# Altium schematic symbol library MainBLib.SchLib: 49 symbols (part 1 of 2)
Pins are listed as number, name and electrical type; pins without a type are passive.

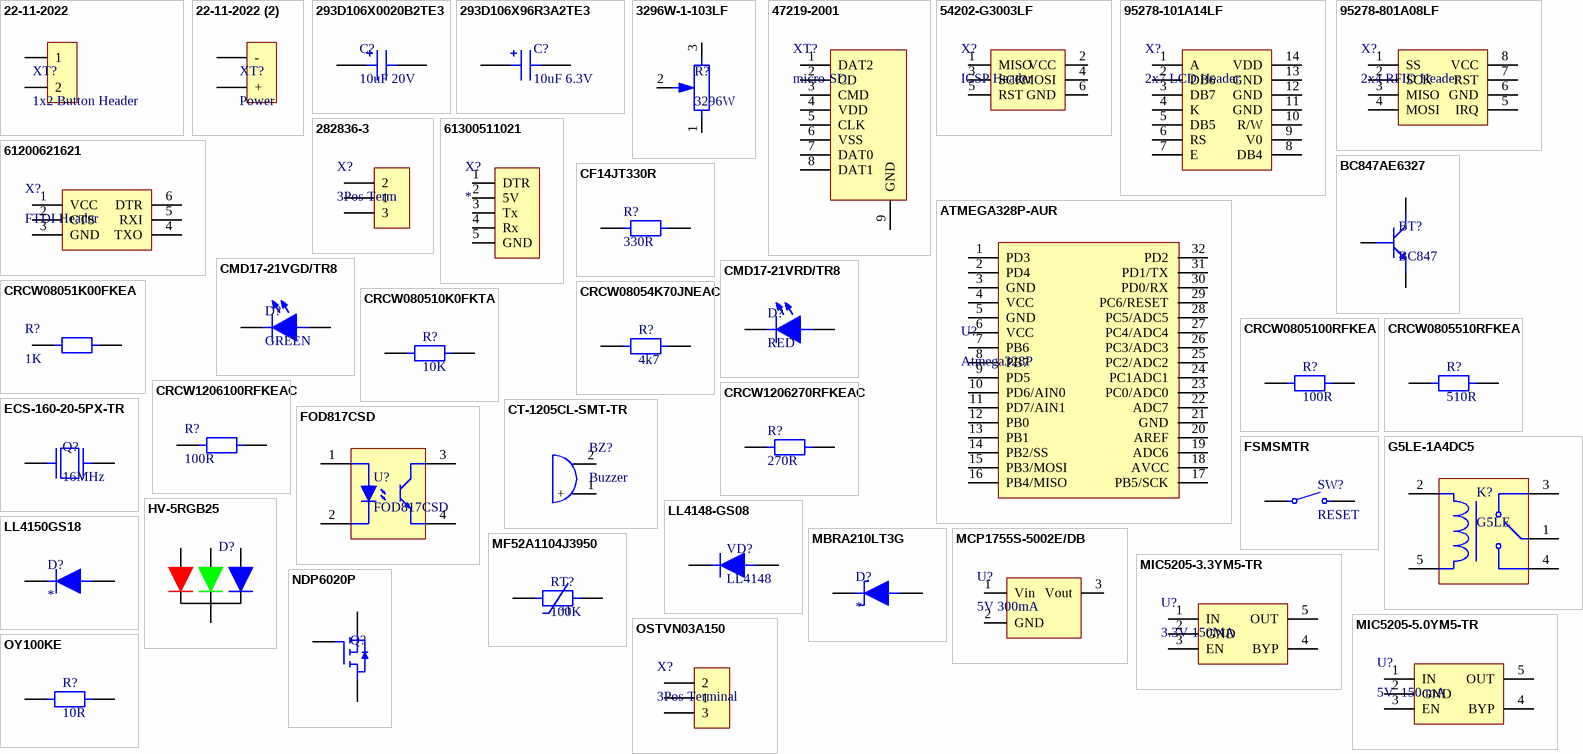
[diagram p0: symbols 22-11-2022 to OY100KE]

## 22-11-2022
designator XT?, comment 1x2 Button Header
HEADER, 2POS, 1ROW, 2.54MM; Manufacturer: Molex; Number of Positions: 2; Gender: Male; Contact Resistance: 10mR; Current Rating: 4A; Voltage Rating: 250V; Max Current Rating: 7A; Insulation Resistance: 50GR; Approvals: UL,CSA; Supplier 1: Digi-Key; Supplier Part Number 1: WM2700-ND; Manufacturer Part Number: 22-11-2022; Stock 1: 6202; Pricing 1: 1=0.4, 10=0.38, 100=0.2658, 500=0.2279, 1000=0.1899, 5000=0.1628, 10000=0.1519 (USD); Mount: Through Hole; Color: White; Housing Color: Black; Housing Material: Nylon; Contact Plating: Gold,Copper,Tin; Contact Material: Brass; Min Operating Temperature: 0°C; Max Operating Temperature: 75°C; Number of Rows: 1; Packaging: Bulk; Termination: Solder; Number of Contacts: 2; Orientation: Straight; Package Quantity: 3000; Number of Circuits: 2; Max Voltage Rating (AC): 250V; Voltage Rating (DC): 250V; Length: 95mm; Height: 9.02mm; Pitch: 2.54mm; Depth: 20.29mm; Radiation Hardening: No; REACH SVHC: Unknown; Lead Free: Lead Free; Flammability Rating: UL94 V-0; ComponentLink1URL: http://www.molex.com/webdocs/datasheets/pdf/en-us/0022112022_PCB_HEADERS.pdf?src-supplier=Avnet+Asia; ComponentLink1Description: http://www.molex.com/webdocs/datasheets/pdf/en-us/0022112022_PCB_HEADERS.pdf?src-supplier=Avnet+Asia; ComponentLink2URL: http://www.molex.com/webdocs/datasheets/pdf/en-us/0022112022_PCB_HEADERS.pdf?src-supplier=Avnet; ComponentLink2Description: http://www.molex.com/webdocs/datasheets/pdf/en-us/0022112022_PCB_HEADERS.pdf?src-supplier=Avnet; ComponentLink3URL: https://www.verical.com/server-webapp/html/getDatasheet?partID=176586&src-supplier=Verical; ComponentLink3Description: https://www.verical.com/server-webapp/html/getDatasheet?partID=176586&src-supplier=Verical; ComponentLink4URL: http://www.mouser.com/ds/2/276/0022112022_PCB_HEADERS-526513.pdf?src-supplier=Mouser; ComponentLink4Description: http://www.mouser.com/ds/2/276/0022112022_PCB_HEADERS-526513.pdf?src-supplier=Mouser; ComponentLink5URL: http://www.jameco.com/Jameco/Products/ProdDS/1965998.pdf?src-supplier=Jameco; ComponentLink5Description: http://www.jameco.com/Jameco/Products/ProdDS/1965998.pdf?src-supplier=Jameco; ComponentLink6URL: http://uk.rs-online.com/webdocs/13c2/0900766b813c2e16.pdf?src-supplier=RSComponents; ComponentLink6Description: http://uk.rs-online.com/webdocs/13c2/0900766b813c2e16.pdf?src-supplier=RSComponents; ComponentLink7URL: http://www.farnell.com/datasheets/2289626.pdf?src-supplier=Element14; ComponentLink7Description: http://www.farnell.com/datasheets/2289626.pdf?src-supplier=Element14; ComponentLink8URL: http://www.farnell.com/datasheets/2672760.pdf?src-supplier=Newark; ComponentLink8Description: http://www.farnell.com/datasheets/2672760.pdf?src-supplier=Newark; Category: Connectors
footprint HEADERx2
pins: 1, 2

## 22-11-2022 (2)
designator XT?, comment Power
HEADER, 2POS, 1ROW, 2.54MM; Manufacturer: Molex; Voltage Rating: 250V; Current Rating: 4A; Insulation Resistance: 50GR; Number of Contacts: 2; Contact Resistance: 10mR; Gender: Male; Max Current Rating: 7A; Approvals: UL,CSA; Supplier 1: Digi-Key; Supplier Part Number 1: WM2700-ND; Manufacturer Part Number: 22-11-2022; Stock 1: 6202; Pricing 1: 1=0.4, 10=0.38, 100=0.2658, 500=0.2279, 1000=0.1899, 5000=0.1628, 10000=0.1519 (USD); Mount: Through Hole; Contact Plating: Gold,Copper,Tin; Contact Material: Brass; Color: White; Housing Color: Black; Housing Material: Nylon; Min Operating Temperature: 0°C; Max Operating Temperature: 75°C; Termination: Solder; Packaging: Bulk; Package Quantity: 3000; Number of Rows: 1; Number of Positions: 2; Orientation: Straight; Number of Circuits: 2; Max Voltage Rating (AC): 250V; Voltage Rating (DC): 250V; Length: 95mm; Height: 9.02mm; Pitch: 2.54mm; Depth: 20.29mm; Radiation Hardening: No; Lead Free: Lead Free; REACH SVHC: Unknown; Flammability Rating: UL94 V-0; ComponentLink1URL: http://www.molex.com/webdocs/datasheets/pdf/en-us/0022112022_PCB_HEADERS.pdf?src-supplier=Avnet+Asia; ComponentLink1Description: http://www.molex.com/webdocs/datasheets/pdf/en-us/0022112022_PCB_HEADERS.pdf?src-supplier=Avnet+Asia; ComponentLink2URL: http://www.molex.com/webdocs/datasheets/pdf/en-us/0022112022_PCB_HEADERS.pdf?src-supplier=Avnet; ComponentLink2Description: http://www.molex.com/webdocs/datasheets/pdf/en-us/0022112022_PCB_HEADERS.pdf?src-supplier=Avnet; ComponentLink3URL: https://www.verical.com/server-webapp/html/getDatasheet?partID=176586&src-supplier=Verical; ComponentLink3Description: https://www.verical.com/server-webapp/html/getDatasheet?partID=176586&src-supplier=Verical; ComponentLink4URL: http://www.mouser.com/ds/2/276/0022112022_PCB_HEADERS-526513.pdf?src-supplier=Mouser; ComponentLink4Description: http://www.mouser.com/ds/2/276/0022112022_PCB_HEADERS-526513.pdf?src-supplier=Mouser; ComponentLink5URL: http://www.jameco.com/Jameco/Products/ProdDS/1965998.pdf?src-supplier=Jameco; ComponentLink5Description: http://www.jameco.com/Jameco/Products/ProdDS/1965998.pdf?src-supplier=Jameco; ComponentLink6URL: http://uk.rs-online.com/webdocs/13c2/0900766b813c2e16.pdf?src-supplier=RSComponents; ComponentLink6Description: http://uk.rs-online.com/webdocs/13c2/0900766b813c2e16.pdf?src-supplier=RSComponents; ComponentLink7URL: http://www.farnell.com/datasheets/2289626.pdf?src-supplier=Element14; ComponentLink7Description: http://www.farnell.com/datasheets/2289626.pdf?src-supplier=Element14; ComponentLink8URL: http://www.farnell.com/datasheets/2672760.pdf?src-supplier=Newark; ComponentLink8Description: http://www.farnell.com/datasheets/2672760.pdf?src-supplier=Newark; Category: Connectors
footprint HEADERx2
pins: 1 +, 2 -

## 293D106X0020B2TE3
designator C?, comment 10uF 20V
Cap Tant 10uF 20V B CASE 20% (3.5 X 2.8 X 1.9mm) SMD 3528-21 2.1 Ohm 125C T/R; Manufacturer: Vishay Sprague; Manufacturer Part Number: 293D106X0020B2TE3; Dielectric Material: Tantalum; ESR (Equivalent Series Resistance): 2.1R; Ripple Current: 200mA; Leakage Current: 2uA; Polarity: Polar; Dissipation Factor: 6%; Voltage Rating (DC): 2V; Supplier 1: Digi-Key; Supplier Part Number 1: 718-1926-1-ND; Stock 1: 9664; Pricing 1: 1=0.48, 10=0.336, 100=0.2018, 500=0.1514, 1000=0.1278 (USD); Mount: Surface Mount; Case/Package: 1411; Number of Pins: 2; Weight: 0.002293oz; Case Code (Metric): 3528; Case Code (Imperial): 1411; Min Operating Temperature: -55°C; Max Operating Temperature: 125°C; Package Quantity: 2000; Packaging: Tape and Reel; Capacitance: 10uF; Tolerance: 20%; Voltage Rating: 20V; Termination: SMD/SMT; Voltage: 20V; Features: General Purpose; Length: 3.5mm; Height: 2.1mm; Width: 0.11inch; Height - Seated (Max): 0.083inch; Depth: 2.8mm; Radiation Hardening: No; REACH SVHC: Unknown; Lead Free: Lead Free; ComponentLink1URL: http://www.vishay.com/docs/40002/293d.pdf?src-supplier=Avnet; ComponentLink1Description: http://www.vishay.com/docs/40002/293d.pdf?src-supplier=Avnet; ComponentLink2URL: http://www.vishay.com/docs/40002/293d.pdf?src-supplier=Future+Electronics; ComponentLink2Description: http://www.vishay.com/docs/40002/293d.pdf?src-supplier=Future+Electronics; ComponentLink3URL: http://www.mouser.com/ds/2/427/293d-239871.pdf?src-supplier=Mouser; ComponentLink3Description: http://www.mouser.com/ds/2/427/293d-239871.pdf?src-supplier=Mouser; ComponentLink4URL: http://www.vishay.com/docs/40002/293d.pdf?src-supplier=Avnet+Europe; ComponentLink4Description: http://www.vishay.com/docs/40002/293d.pdf?src-supplier=Avnet+Europe; ComponentLink5URL: http://www.vishay.com/docs/40002/293d.pdf?src-supplier=Digi-Key; ComponentLink5Description: http://www.vishay.com/docs/40002/293d.pdf?src-supplier=Digi-Key; Category: Capasitors
footprint Tant Capacitor B Package
pins: 1, 2

## 293D106X96R3A2TE3
designator C?, comment 10uF 6.3V
CAP TANT 10UF 6.3V 10% 1206; Manufacturer: Vishay Sprague; Manufacturer Part Number: 293D106X96R3A2TE3; Dielectric Material: Tantalum; ESR (Equivalent Series Resistance): 3.4R; Ripple Current: 150mA; Leakage Current: 600nA; Polarity: Polar; Dissipation Factor: 6%; Q Factor: 6; Supplier 1: Digi-Key; Supplier Part Number 1: 718-1126-1-ND; Stock 1: 57716; Pricing 1: 1=0.3, 10=0.212, 100=0.127, 500=0.0952, 1000=0.0804 (USD); Mount: Surface Mount,PCB; Case/Package: 1206; Case Code (Metric): 3216; Case Code (Imperial): 1206; Min Operating Temperature: -55°C; Max Operating Temperature: 125°C; Capacitance: 10uF; Tolerance: 10%; Voltage Rating: 6.3V; Packaging: Tape and Reel; Voltage Rating (DC): 6.3V; Package Quantity: 1; Termination: SMD/SMT; Voltage: 6.3V; Features: General Purpose; Length: 3.2mm; Height: 1.6mm; Width: 1.6mm; Height - Seated (Max): 0.071inch; Depth: 1.6mm; Radiation Hardening: No; REACH SVHC: Unknown; Lead Free: Lead Free; ComponentLink1URL: http://www.vishay.com/docs/40002/293d.pdf?src-supplier=Avnet; ComponentLink1Description: http://www.vishay.com/docs/40002/293d.pdf?src-supplier=Avnet; ComponentLink2URL: http://www.farnell.com/datasheets/2045658.pdf?src-supplier=Element14; ComponentLink2Description: http://www.farnell.com/datasheets/2045658.pdf?src-supplier=Element14; ComponentLink3URL: http://documents.rs-components.com/techlib://itc_doclist_GB.htm?stockno=6843913&src-supplier=RSComponents; ComponentLink3Description: http://documents.rs-components.com/techlib://itc_doclist_GB.htm?stockno=6843913&src-supplier=RSComponents; ComponentLink4URL: https://www.alliedelec.com/m/d/7dc9f301682605e5c5665c787edb7bb9.pdf?src-supplier=Allied+Electronics; ComponentLink4Description: https://www.alliedelec.com/m/d/7dc9f301682605e5c5665c787edb7bb9.pdf?src-supplier=Allied+Electronics; ComponentLink5URL: http://www.vishay.com/docs/40002/293d.pdf?src-supplier=Digi-Key; ComponentLink5Description: http://www.vishay.com/docs/40002/293d.pdf?src-supplier=Digi-Key; ComponentLink6URL: http://www.mouser.com/ds/2/427/293d-239871.pdf?src-supplier=Mouser; ComponentLink6Description: http://www.mouser.com/ds/2/427/293d-239871.pdf?src-supplier=Mouser; ComponentLink7URL: http://www.vishay.com/docs/40002/293d.pdf?src-supplier=Avnet+Europe; ComponentLink7Description: http://www.vishay.com/docs/40002/293d.pdf?src-supplier=Avnet+Europe; ComponentLink8URL: http://www.farnell.com/datasheets/438417.pdf?src-supplier=Element14; ComponentLink8Description: http://www.farnell.com/datasheets/438417.pdf?src-supplier=Element14; Category: Capacitors
footprint CAP MP3216X16M (Molded Capacitor, 2-Leads, Body 3.20x1.60mm, IPC Low Density)
pins: 1, 2

## 3296W-1-103LF
designator R?, comment 3296W
POT,TRIMMER, 10K, 25TURN, 10%; Manufacturer: Bourns; Manufacturer Part Number: 3296W-1-103LF; Resistance: 10kR; Power Rating: 500mW; Number of Turns: 25; Temperature Coefficient: 100ppm/°C; Insulation Resistance: 1GR; Supplier 1: Digi-Key; Supplier Part Number 1: 3296W-103LF-ND; Stock 1: 6831; Pricing 1: 1=2.41, 10=2.117, 25=1.898, 50=1.825, 100=1.752, 250=1.679, 500=1.387, 1000=1.314, 5000=1.095 (USD); Mount: PCB,Through Hole; Weight: 0.03oz; Color: Blue; Contact Plating: Tin,Matte; Min Operating Temperature: -55°C; Max Operating Temperature: 125°C; Packaging: Rail/Tube; Tolerance: 10%; Package Quantity: 50; Termination: Pin; Military Standard: Not; Composition: Cermet; Taper: Linear; Max Power Dissipation: 500mW; Length: 9.53mm; Height: 0.395inch; Depth: 4.83mm; Width: 9.53mm; Radiation Hardening: No; REACH SVHC: No SVHC; Lead Free: Lead Free; ComponentLink1URL: http://www.jameco.com/Jameco/Products/ProdDS/853572.pdf?src-supplier=Jameco; ComponentLink1Description: http://www.jameco.com/Jameco/Products/ProdDS/853572.pdf?src-supplier=Jameco; ComponentLink2URL: http://uk.rs-online.com/webdocs/069c/0900766b8069ccf4.pdf?src-supplier=RSComponents; ComponentLink2Description: http://uk.rs-online.com/webdocs/069c/0900766b8069ccf4.pdf?src-supplier=RSComponents; ComponentLink3URL: http://www.farnell.com/datasheets/1815117.pdf?src-supplier=Element14; ComponentLink3Description: http://www.farnell.com/datasheets/1815117.pdf?src-supplier=Element14; ComponentLink4URL: https://www.alliedelec.com/m/d/2c9544ba67faa2c7f2ae4d15d246abe3.pdf?src-supplier=Allied+Electronics; ComponentLink4Description: https://www.alliedelec.com/m/d/2c9544ba67faa2c7f2ae4d15d246abe3.pdf?src-supplier=Allied+Electronics; ComponentLink5URL: http://www.bourns.com/data/global/pdfs/3296.pdf?src-supplier=Avnet; ComponentLink5Description: http://www.bourns.com/data/global/pdfs/3296.pdf?src-supplier=Avnet; ComponentLink6URL: https://www.bourns.com/docs/Product-Datasheets/3296.pdf?src-supplier=Digi-Key; ComponentLink6Description: https://www.bourns.com/docs/Product-Datasheets/3296.pdf?src-supplier=Digi-Key; ComponentLink7URL: http://www.produktinfo.conrad.com/datenblaetter/425000-449999/447277-da-01-en-TRIMMER_THT3296W_1_103LF_10K_0_5W.pdf?src-supplier=Conrad; ComponentLink7Description: http://www.produktinfo.conrad.com/datenblaetter/425000-449999/447277-da-01-en-TRIMMER_THT3296W_1_103LF_10K_0_5W.pdf?src-supplier=Conrad; ComponentLink8URL: http://datasheet.iiic.cc/bourns/3296W-1-103LF.pdf?src-supplier=IIIC; ComponentLink8Description: http://datasheet.iiic.cc/bourns/3296W-1-103LF.pdf?src-supplier=IIIC; Category: Potentiometers
pins: 1, 2, 3

## 47219-2001
designator XT?, comment micro-SD
Conn Micro SD Card SKT 8 POS 1.1mm Solder RA SMD 0.5A/Contact Embossed T/R; Manufacturer: Molex; Manufacturer Part Number: 47219-2001; Number of Contacts: 8; Current Rating: 500mA; Voltage Rating (DC): 100V; Gender: Female; Shielding: Shielded; Pitch: 1.09mm; Supplier 1: Digi-Key; Supplier Part Number 1: WM6698CT-ND; Stock 1: 25434; Pricing 1: 1=1.16, 10=1.022, 25=0.9616, 50=0.9214, 100=0.8814, 250=0.8012 (USD); Mount: Surface Mount; Contact Material: Copper Alloy; Contact Plating: Gold; Housing Material: Thermoplastic; Color: Black; Material: Thermoplastic; Min Operating Temperature: -20°C; Max Operating Temperature: 85°C; Packaging: Tape and Reel; Package Quantity: 2400; Termination: SMD/SMT; Orientation: Right Angle; Number of Circuits: 8; Length: 13.6mm; Depth: 1.9mm; Width: 14.5mm; Radiation Hardening: No; REACH SVHC: No SVHC; Lead Free: Lead Free; Halogen Free: Low Halogen; ELV: Compliant; ComponentLink1URL: http://www.onlinecomponents.com/productFiles/mf-MOL/260460472192001_memory_card_socket.pdf?src-supplier=Onlinecomponents.com; ComponentLink1Description: http://www.onlinecomponents.com/productFiles/mf-MOL/260460472192001_memory_card_socket.pdf?src-supplier=Onlinecomponents.com; ComponentLink2URL: http://www.molex.com/webdocs/datasheets/pdf/en-us/0472192001_MEMORY_CARD_SOCKET.pdf?src-supplier=Avnet+Europe; ComponentLink2Description: http://www.molex.com/webdocs/datasheets/pdf/en-us/0472192001_MEMORY_CARD_SOCKET.pdf?src-supplier=Avnet+Europe; Category: Connectors
footprint microSD
pins: 1 DAT2, 2 CD, 3 CMD, 4 VDD, 5 CLK, 6 VSS, 7 DAT0, 8 DAT1, 9 GND

## 54202-G3003LF
designator X?, comment ICSP Header
HEADER, 6POS, 2ROWS 2.54mm Solder ST SMD Bag; Manufacturer: Amphenol FCI; Manufacturer Part Number: 54202-G3003LF; Current Rating: 3A; Voltage Rating: 1.5kV; Number of Positions: 6; Insulation Resistance: 5GR; Gender: Male; Connector Type: Male Pin; Row Spacing: 0.1inch; Supplier 1: Digi-Key; Supplier Part Number 1: 609-6366-ND; Stock 1: 2311; Pricing 1: 1=0.38, 10=0.356, 100=0.2489, 500=0.2134, 1000=0.1778, 5000=0.1524, 10000=0.1422 (USD); Mount: Surface Mount; Color: Black; Contact Material: Bronze; Contact Plating: Gold,GXT; Housing Color: Black; Housing Material: Thermoplastic; Min Operating Temperature: -65°C; Max Operating Temperature: 125°C; Package Quantity: 1000; Packaging: Bulk; Number of Rows: 2; Contact Gender: Male; Termination: Solder; Number of Contacts: 6; Max Voltage Rating (AC): 1.5kV; Orientation: Straight; Length: 7.62mm; Pitch: 2.54mm; Contact Mating Length: 0.318inch; Depth: 4.83mm; Radiation Hardening: No; ComponentLink1URL: http://portal.fciconnect.com/Comergent///fci/drawing/54202.pdf?src-supplier=Avnet; ComponentLink1Description: http://portal.fciconnect.com/Comergent///fci/drawing/54202.pdf?src-supplier=Avnet; Category: Connectors
footprint HDRx6
pins: 1 MISO, 2 VCC, 3 SCK, 4 MOSI, 5 RST, 6 GND

## 95278-101A14LF
designator X?, comment 2x7 LCD Header
HEADER, 14POS, 2ROWS 2.54mm .100 DR SMT; Manufacturer: Amphenol FCI; Manufacturer Part Number: 95278-101A14LF; Current Rating: 3A; Voltage Rating: 1.5kV; Number of Positions: 14; Insulation Resistance: 5GR; Gender: Male; Connector Type: Male Pin; Row Spacing: 0.1inch; Supplier 1: Digi-Key; Supplier Part Number 1: 609-3485-1-ND; Stock 1: 7010; Pricing 1: 1=1.38, 10=1.252, 100=1.0728 (USD); Mount: Surface Mount; Color: Black; Contact Plating: Gold,GXT; Contact Material: Bronze; Housing Color: Black; Housing Material: Thermoplastic; Min Operating Temperature: -65°C; Max Operating Temperature: 125°C; Package Quantity: 300; Number of Rows: 2; Packaging: Tape and Reel; Contact Gender: Male; Termination: SMD/SMT; Number of Contacts: 14; Max Voltage Rating (AC): 1.5kV; Orientation: Straight; Length: 17.78mm; Pitch: 2.54mm; Contact Mating Length: 0.232inch; Depth: 4.83mm; Radiation Hardening: No; REACH SVHC: No SVHC; Lead Free: Lead Free; ComponentLink1URL: https://cdn.amphenol-icc.com/media/wysiwyg/files/drawing/95278.pdf?src-supplier=Digi-Key; ComponentLink1Description: https://cdn.amphenol-icc.com/media/wysiwyg/files/drawing/95278.pdf?src-supplier=Digi-Key; ComponentLink2URL: http://portal.fciconnect.com/Comergent//fci/drawing/95278.pdf?src-supplier=Digi-Key; ComponentLink2Description: http://portal.fciconnect.com/Comergent//fci/drawing/95278.pdf?src-supplier=Digi-Key; ComponentLink3URL: http://www.farnell.com/datasheets/1918632.pdf?src-supplier=Element14; ComponentLink3Description: http://www.farnell.com/datasheets/1918632.pdf?src-supplier=Element14; ComponentLink4URL: http://portal.fciconnect.com/Comergent/fci/drawing/95278.pdf?src-supplier=Element14; ComponentLink4Description: http://portal.fciconnect.com/Comergent/fci/drawing/95278.pdf?src-supplier=Element14; ComponentLink5URL: https://www.alliedelec.com/m/d/461e4c163161d08bf5cdf53af6a09262.pdf?src-supplier=Allied+Electronics; ComponentLink5Description: https://www.alliedelec.com/m/d/461e4c163161d08bf5cdf53af6a09262.pdf?src-supplier=Allied+Electronics; Category: Connectors
footprint HEADERx14
pins: 1 A, 2 DB6, 3 DB7, 4 K, 5 DB5, 6 RS, 7 E, 8 DB4, 9 V0, 10 R/W, 11 GND, 12 GND, 13 GND, 14 VDD

## 95278-801A08LF
designator X?, comment 2x4 RFID Header
HEADER, 8POS, 2ROWS 2.54mm SMT; H: 9.7mm; Manufacturer: Amphenol FCI; Manufacturer Part Number: 95278-801A08LF; Current Rating: 3A; Voltage Rating: 1.5kV; Number of Positions: 8; Insulation Resistance: 5GR; Gender: Male; Connector Type: Male Pin; Row Spacing: 0.1inch; Supplier 1: Digi-Key; Supplier Part Number 1: 609-5162-1-ND; Stock 1: 2073; Pricing 1: 1=0.82, 10=0.724, 100=0.6248 (USD); Mount: Surface Mount; Contact Plating: Gold,GXT; Contact Material: Bronze; Color: Black; Housing Color: Black; Housing Material: Thermoplastic; Min Operating Temperature: -65°C; Max Operating Temperature: 125°C; Number of Rows: 2; Packaging: Tape and Reel; Contact Gender: Male; Package Quantity: 300; Termination: Solder; Max Voltage Rating (AC): 1.5kV; Number of Contacts: 8; Orientation: Straight; Length: 10.16mm; Pitch: 2.54mm; Contact Mating Length: 0.232inch; Depth: 4.83mm; Radiation Hardening: No; Flammability Rating: UL94 V-0; ComponentLink1URL: http://portal.fciconnect.com/Comergent/fci/drawing/95278.pdf?src-supplier=Avnet+Europe; ComponentLink1Description: http://portal.fciconnect.com/Comergent/fci/drawing/95278.pdf?src-supplier=Avnet+Europe; ComponentLink2URL: http://portal.fciconnect.com/Comergent//fci/drawing/95278.pdf?src-supplier=Digi-Key; ComponentLink2Description: http://portal.fciconnect.com/Comergent//fci/drawing/95278.pdf?src-supplier=Digi-Key; Category: Connectors
footprint HEADERx8
pins: 1 SS, 2 SCK, 3 MISO, 4 MOSI, 5 IRQ, 6 GND, 7 RST, 8 VCC

## 282836-3
designator X?, comment 3Pos Term
TERMINAL 3POS 5mm SIDE ENTRY PCB; Manufacturer: TE Connectivity; Manufacturer Part Number: 282836-3; Plating: Brass; Current Rating: 13.5A; Voltage Rating (AC): 250V; Number of Poles: 3; Max Voltage Rating (AC): 300V; Number of Levels: 1; Connector Type: Receptacle; Closed End: No (Without); Interlock: Yes (With); Wire/Cable Gauge: 16AWG; Wire Gauge (Max): 30AWG; Thread Size: M3; Tail Length: 3.5mm; Approvals: UL; Supplier 1: Digi-Key; Supplier Part Number 1: A98077-ND; Stock 1: 27350; Pricing 1: 1=1.24, 10=0.874, 25=0.8148, 50=0.7398, 100=0.7364, 250=0.6219, 500=0.5891, 1000=0.5237, 5000=0.491 (USD); Mount: Through Hole; Contact Plating: Tin; Contact Material: Brass; Color: Green; Housing Color: Green; Housing Material: Polyamide; Insulation Material: Nylon; Number of Rows: 1; Package Quantity: 200; Packaging: Bulk; Voltage Rating: 300V; Max Current Rating: 13.5A; Number of Positions Per Level: 3; Current: 13.5A; Voltage: 300V; Termination: Screw; Number of Positions: 3; Number of Contacts: 3; RMS Current (Irms): 13.5A; Working Voltage: 250V; Number of Circuits: 3; Max Supply Voltage (AC): 300V; Orientation: Straight; Screw Flange: No (Without); Screwless Terminal Block: No (Without); Side Stackable: Yes (With); Length: 15mm; Wire Gauge (Min): 16AWG; Width: 10mm; Pitch: 5mm; Depth: 8.2mm; Radiation Hardening: No; REACH SVHC: Unknown; Lead Free: Lead Free; ELV: Compliant; Flammability Rating: UL94 V-0; ComponentLink1URL: https://www.verical.com/server-webapp/html/getDatasheet?partID=155856&src-supplier=Verical; ComponentLink1Description: https://www.verical.com/server-webapp/html/getDatasheet?partID=155856&src-supplier=Verical; ComponentLink2URL: https://www.te.com/commerce/DocumentDelivery/DDEController?Action=srchrtrv&DocNm=1308389_EUROSTYLE_TERMINAL_BLOCKS&DocType=CS&DocLang=English&src-supplier=Digi-Key; ComponentLink2Description: https://www.te.com/commerce/DocumentDelivery/DDEController?Action=srchrtrv&DocNm=1308389_EUROSTYLE_TERMINAL_BLOCKS&DocType=CS&DocLang=English&src-supplier=Digi-Key; ComponentLink3URL: http://www.onlinecomponents.com/productFiles/mf-AMP/eng_cs_1308389_eurostyle_terminal_blocks_0607.pdf?src-supplier=Onlinecomponents.com; ComponentLink3Description: http://www.onlinecomponents.com/productFiles/mf-AMP/eng_cs_1308389_eurostyle_terminal_blocks_0607.pdf?src-supplier=Onlinecomponents.com; ComponentLink4URL: http://www.te.com/commerce/DocumentDelivery/DDEController?Action=showdoc&DocId=Catalog+Section%7F1308389_EUROSTYLE_TERMINAL_BLOCKS%7F0607%7Fpdf%7FEnglish%7FENG_CS_1308389_EUROSTYLE_TERMINAL_BLOCKS_0607.pdf%7F282836-3&src-supplier=Future+Electronics; ComponentLink4Description: http://www.te.com/commerce/DocumentDelivery/DDEController?Action=showdoc&DocId=Catalog+Section%7F1308389_EUROSTYLE_TERMINAL_BLOCKS%7F0607%7Fpdf%7FEnglish%7FENG_CS_1308389_EUROSTYLE_TERMINAL_BLOCKS_0607.pdf%7F282836-3&src-supplier=Future+Electronics; ComponentLink5URL: http://www.jameco.com/Jameco/Products/ProdDS/750661.pdf?src-supplier=Jameco; ComponentLink5Description: http://www.jameco.com/Jameco/Products/ProdDS/750661.pdf?src-supplier=Jameco; ComponentLink6URL: https://www.alliedelec.com/m/d/c15f958d4f0d312ebef2d0a238f3cd9c.pdf?src-supplier=Allied+Electronics; ComponentLink6Description: https://www.alliedelec.com/m/d/c15f958d4f0d312ebef2d0a238f3cd9c.pdf?src-supplier=Allied+Electronics; ComponentLink7URL: http://www.te.com/commerce/DocumentDelivery/DDEController?Action=srchrtrv&DocNm=1308389_EUROSTYLE_TERMINAL_BLOCKS&DocType=Catalog+Section&DocLang=English&src-supplier=Avnet+Europe; ComponentLink7Description: http://www.te.com/commerce/DocumentDelivery/DDEController?Action=srchrtrv&DocNm=1308389_EUROSTYLE_TERMINAL_BLOCKS&DocType=Catalog+Section&DocLang=English&src-supplier=Avnet+Europe; ComponentLink8URL: http://uk.rs-online.com/webdocs/002d/0900766b8002dc8a.pdf?src-supplier=RSComponents; ComponentLink8Description: http://uk.rs-online.com/webdocs/002d/0900766b8002dc8a.pdf?src-supplier=RSComponents; ComponentLink9URL: http://www.te.com/commerce/DocumentDelivery/DDEController?Action=srchrtrv&DocNm=1308389_EUROSTYLE_TERMINAL_BLOCKS&DocType=Catalog+Section&DocLang=English&src-supplier=Avnet; ComponentLink9Description: http://www.te.com/commerce/DocumentDelivery/DDEController?Action=srchrtrv&DocNm=1308389_EUROSTYLE_TERMINAL_BLOCKS&DocType=Catalog+Section&DocLang=English&src-supplier=Avnet; Category: Connctors
footprint 3 Pos Terminal 5mm
pins: 1, 2, 3

## 61200621621
designator X?, comment FTDI Header
Header, 6 Contacts, 2.54 mm, WR-BHD Series, WURTH ELEKTRONIK Wire-To-Board Connector, Through Hole; Manufacturer: Wurth Electronics; Manufacturer Part Number: 61200621621; Number of Positions: 6; Gender: Male; Connector Type: Male Pin; Pitch: 0.1inch; Supplier 1: Digi-Key; Supplier Part Number 1: 732-5394-ND; Stock 1: 1821; Pricing 1: 1=0.45, 10=0.437, 50=0.403, 100=0.361, 360=0.3544 (USD); Mount: Through Hole; Contact Plating: Gold; Contact Material: Copper; Color: Black; Packaging: Tray; Termination: Solder; Number of Rows: 2; Number of Contacts: 6; Row Spacing: 0.1inch; REACH SVHC: Unknown; ComponentLink1URL: http://www.farnell.com/datasheets/76595.pdf?src-supplier=Element14; ComponentLink1Description: http://www.farnell.com/datasheets/76595.pdf?src-supplier=Element14; Category: Connectors
footprint FTDI HDRx6
pins: 1 VCC, 2 CTS, 3 GND, 4 TXO, 5 RXI, 6 DTR

## 61300511021
designator X?
HEADER 5Pos Right Angle, WURTH ELEKTRONIK 61300511021 Board-To-Board Connector, WR-PHD Series, Through Hole, Header, 5 Contacts, 2.54 mm; Manufacturer: Wurth Electronics; Number of Positions: 5; Gender: Male; Connector Type: Male Pin; Pitch: 0.1inch; Supplier 1: Digi-Key; Supplier Part Number 1: 732-5338-ND; Manufacturer Part Number: 61300511021; Stock 1: 5115; Pricing 1: 1=0.41, 10=0.348, 25=0.29, 50=0.242, 100=0.22, 1000=0.2 (USD); Mount: Through Hole; Contact Plating: Gold; Contact Material: Copper; Color: Black; Number of Rows: 1; Packaging: Bulk; Termination: Solder; Number of Contacts: 5; Contact Mating Length: 0.236inch; REACH SVHC: Unknown; ComponentLink1URL: http://www.farnell.com/datasheets/1442172.pdf?src-supplier=Element14; ComponentLink1Description: http://www.farnell.com/datasheets/1442172.pdf?src-supplier=Element14; ComponentLink2URL: http://www.farnell.com/datasheets/1442172.pdf?src-supplier=Farnell; ComponentLink2Description: http://www.farnell.com/datasheets/1442172.pdf?src-supplier=Farnell; ComponentLink3URL: https://katalog.we-online.de/em/datasheet/6130xx11021.pdf?src-supplier=Digi-Key; ComponentLink3Description: https://katalog.we-online.de/em/datasheet/6130xx11021.pdf?src-supplier=Digi-Key; ComponentLink4URL: http://www.farnell.com/datasheets/1442172.pdf?src-supplier=Newark; ComponentLink4Description: http://www.farnell.com/datasheets/1442172.pdf?src-supplier=Newark; Category: Connectors
footprint HDR1X5H (Connector; Header; 5 Position; Right Angle)
pins: 1 DTR, 2 5V, 3 Tx, 4 Rx, 5 GND

## ATMEGA328P-AUR
designator U?, comment Atmega328P
ATMEGA328P-AUR 8BIT 32KB FLASH 32TQFP; Manufacturer: Microchip; Frequency: 40MHz; Interface: I2C,SPI,UART,USART; Oscillator Type: Internal; Peripherals: Brown-out Detect/Reset,POR,PWM,WDT; Number of I/Os: 32; Core Architecture: PIC; Supplier 1: Digi-Key; Supplier Part Number 1: ATMEGA328P-AURCT-ND; Manufacturer Part Number: ATMEGA328P-AUR; Stock 1: 19930; Pricing 1: 1=2.14, 25=1.9672, 100=1.7819 (USD); Case/Package: TQFP; Min Operating Temperature: -40°C; Max Operating Temperature: 85°C; Packaging: Cut Tape; Memory Type: FLASH; Memory Size: 32KB; Category: Integrated Circuits
footprint TQFP80P900X900X120-32M (TQFP, 32-Leads, Body 7.00x7.00mm, Pitch 0.80mm, IPC Low Density)
pins: 1 PD3, 2 PD4, 3 GND, 4 VCC, 5 GND, 6 VCC, 7 PB6, 8 PB7, 9 PD5, 10 PD6/AIN0, 11 PD7/AIN1, 12 PB0, 13 PB1, 14 PB2/SS, 15 PB3/MOSI, 16 PB4/MISO, 17 PB5/SCK, 18 AVCC, 19 ADC6, 20 AREF, 21 GND, 22 ADC7, 23 PC0/ADC0, 24 PC1ADC1, 25 PC2/ADC2, 26 PC3/ADC3, 27 PC4/ADC4, 28 PC5/ADC5, 29 PC6/RESET, 30 PD0/RX, 31 PD1/TX, 32 PD2

## BC847AE6327
designator BT?, comment BC847
Trans NPN 45V 0.1A Automotive 3-Pin SOT-23 T/R GP BJT; Manufacturer: Infineon; Manufacturer Part Number: BC847AE6327; Max Power Dissipation: 330mW; Frequency: 250MHz; Max Collector Current: 100mA; Collector Emitter Voltage (VCEO): 600mV; Collector Base Voltage (VCBO): 50V; Number of Elements: 1; Emitter Base Voltage (VEBO): 6V; Supplier 1: Digi-Key; Supplier Part Number 1: BC847AE6327HTSA1CT-ND; Stock 1: 58887; Pricing 1: 1=0.19, 10=0.175, 100=0.0951, 500=0.0585, 1000=0.0399 (USD); Mount: Surface Mount; Case/Package: SOT-23-3; Number of Pins: 3; Min Operating Temperature: -65°C; Max Operating Temperature: 150°C; Packaging: Tape and Reel; Polarity: NPN; Transition Frequency: 250MHz; Collector Emitter Breakdown Voltage: 45V; Max Breakdown Voltage: 45V; Power Dissipation: 330mW; Current Rating: 100mA; Voltage Rating (DC): 45V; Radiation Hardening: No; Lead Free: Lead Free; Halogen Free: Not Halogen Free; ComponentLink1URL: http://www.infineon.com/dgdl/bc847series_bc848series_bc849series_bc850series.pdf?folderId=db3a304314dca389011541d30fa21656&fileId=db3a304314dca389011541d4630a1657&src-supplier=Avnet; ComponentLink1Description: http://www.infineon.com/dgdl/bc847series_bc848series_bc849series_bc850series.pdf?folderId=db3a304314dca389011541d30fa21656&fileId=db3a304314dca389011541d4630a1657&src-supplier=Avnet; ComponentLink2URL: http://www.mouser.com/ds/2/196/bc847series_bc848series_bc849series_bc850series-55535.pdf?src-supplier=Mouser; ComponentLink2Description: http://www.mouser.com/ds/2/196/bc847series_bc848series_bc849series_bc850series-55535.pdf?src-supplier=Mouser; ComponentLink3URL: https://www.infineon.com/dgdl/Infineon-BC847SERIES_BC848SERIES_BC849SERIES_BC850SERIES-DS-v01_01-en.pdf?fileId=db3a304314dca389011541d4630a1657&src-supplier=Digi-Key; ComponentLink3Description: https://www.infineon.com/dgdl/Infineon-BC847SERIES_BC848SERIES_BC849SERIES_BC850SERIES-DS-v01_01-en.pdf?fileId=db3a304314dca389011541d4630a1657&src-supplier=Digi-Key; ComponentLink4URL: http://components.arrow.com/part/dataview/53356285S7690205N2051?src-supplier=Arrow; ComponentLink4Description: http://components.arrow.com/part/dataview/53356285S7690205N2051?src-supplier=Arrow; ComponentLink5URL: http://components.arrow.com/part/dataview/0323_00171840?src-supplier=Arrow+Europe; ComponentLink5Description: http://components.arrow.com/part/dataview/0323_00171840?src-supplier=Arrow+Europe; ComponentLink6URL: https://www.verical.com/server-webapp/html/getDatasheet?partID=730888&src-supplier=Verical; ComponentLink6Description: https://www.verical.com/server-webapp/html/getDatasheet?partID=730888&src-supplier=Verical; Category: Transistors
footprint SOT95P240X100-3M (SOT23, 3-Leads, Body 2.90x2.40mm, Pitch 0.95mm, IPC Low Density)
pins: 1, 2, 3

## CF14JT330R
designator R?, comment 330R
RES T/H 330 OHM 0.25W 5% AXIAL; Manufacturer: Stackpole Electronics; Manufacturer Part Number: CF14JT330R; Power Rating: 250mW; Temperature Coefficient: 0ppm/°C; Working Voltage: 350V; Supplier 1: Digi-Key; Supplier Part Number 1: CF14JT330RCT-ND; Stock 1: 149946; Pricing 1: 1=0.1, 10=0.04, 25=0.0288, 50=0.022, 100=0.0162, 250=0.0124, 500=0.0099, 1000=0.0073 (USD); Mount: Through Hole,Axial; Case/Package: Conformal; Contact Plating: Tin,Matte; Min Operating Temperature: -55°C; Max Operating Temperature: 155°C; Resistance: 330R; Tolerance: 5%; Packaging: Tape and Reel; Package Quantity: 1; Composition: Carbon Film; Number of Terminations: 2; Military Standard: Not; Termination: Axial; Max Power Dissipation: 250mW; Features: Flame Retardant Coating; Diameter: 2.3mm; Length: 6.5mm; Radiation Hardening: No; Lead Free: Lead Free; ComponentLink1URL: https://www.seielect.com/catalog/SEI-CF_CFM.pdf?src-supplier=Avnet; ComponentLink1Description: https://www.seielect.com/catalog/SEI-CF_CFM.pdf?src-supplier=Avnet; ComponentLink2URL: https://www.verical.com/server-webapp/html/getDatasheet?partID=366451&src-supplier=Verical; ComponentLink2Description: https://www.verical.com/server-webapp/html/getDatasheet?partID=366451&src-supplier=Verical; ComponentLink3URL: https://www.seielect.com/catalog/SEI-CF_CFM.pdf?src-supplier=Avnet+Asia; ComponentLink3Description: https://www.seielect.com/catalog/SEI-CF_CFM.pdf?src-supplier=Avnet+Asia; ComponentLink4URL: https://www.seielect.com/catalog/SEI-Packaging.pdf?src-supplier=Digi-Key; ComponentLink4Description: https://www.seielect.com/catalog/SEI-Packaging.pdf?src-supplier=Digi-Key; ComponentLink5URL: http://www.seielect.com/Catalog/SEI-CF_CFM.pdf?src-supplier=Future+Electronics; ComponentLink5Description: http://www.seielect.com/Catalog/SEI-CF_CFM.pdf?src-supplier=Future+Electronics; ComponentLink6URL: http://components.arrow.com/part/dataview/50573461S2983167N1174?src-supplier=Arrow; ComponentLink6Description: http://components.arrow.com/part/dataview/50573461S2983167N1174?src-supplier=Arrow; Category: Resistors
footprint RES T/H 0.25W
pins: 1, 2

## CMD17-21VGD/TR8
designator D?, comment GREEN
LED GREEN DIFFUSED 0805 SMD; Manufacturer: VCC CHML; Manufacturer Part Number: CMD17-21VGD/TR8; Luminous Intensity: 7mcd; Viewing Angle: 140°; Forward Voltage: 2.1V; Wavelength: 570nm; Lens Style: Rectangular,Diffused,Tinted,Colored; Forward Current: 20mA; Power Rating: 105mW; Number of Elements: 1; Reverse Voltage (DC): 5V; Supplier 1: Digi-Key; Supplier Part Number 1: L62505CT-ND; Stock 1: 7282; Pricing 1: 1=0.49, 10=0.357, 100=0.2328, 500=0.1674, 1000=0.131 (USD); Mount: Surface Mount; Case/Package: 0805; Number of Pins: 2; Color: Green; Case Code (Metric): 2012; Case Code (Imperial): 0805; Min Operating Temperature: -40°C; Max Operating Temperature: 85°C; Packaging: Tape and Reel; Package Quantity: 3000; Illumination Color: Green; Test Current: 20mA; Power Dissipation: 105mW; Number of LEDs: 1; Reverse Voltage: 5V; Length: 2mm; Height: 1.1mm; Width: 1.25mm; Depth: 1.25mm; REACH SVHC: Unknown; Lead Free: Lead Free; ComponentLink1URL: http://www.farnell.com/datasheets/2059681.pdf?src-supplier=Element14; ComponentLink1Description: http://www.farnell.com/datasheets/2059681.pdf?src-supplier=Element14; ComponentLink2URL: http://vcclite.com/_pdf/CMD17-21%20Series%20SMT%20LEDs%200805%20Package%20Size.pdf?src-supplier=Future+Electronics; ComponentLink2Description: http://vcclite.com/_pdf/CMD17-21%20Series%20SMT%20LEDs%200805%20Package%20Size.pdf?src-supplier=Future+Electronics; Category: Optoelectronics
footprint Led G
pins: 1, 2

## CMD17-21VRD/TR8
designator D?, comment RED
LED RED DIFFUSED 0805 SMD; Manufacturer: VCC CHML; Manufacturer Part Number: CMD17-21VRD/TR8; Power Rating: 100mW; Luminous Intensity: 6mcd; Viewing Angle: 140°; Lens Style: Diffused,Tinted,Rectangular,Colored; Forward Current: 20mA; Forward Voltage: 2V; Wavelength: 640nm; Reverse Voltage (DC): 5V; Number of LEDs: 1; Supplier 1: Digi-Key; Supplier Part Number 1: L62501CT-ND; Stock 1: 23551; Pricing 1: 1=0.53, 10=0.38, 100=0.248, 500=0.1782, 1000=0.1395 (USD); Mount: Surface Mount; Case/Package: 0805; Number of Pins: 2; Color: Red; Case Code (Metric): 2012; Case Code (Imperial): 0805; Lens Color: Red; Min Operating Temperature: -40°C; Max Operating Temperature: 85°C; Packaging: Tape and Reel; Package Quantity: 1; Illumination Color: Red; Test Current: 20mA; Reverse Voltage: 5V; Length: 2mm; Height: 1.1mm; Width: 1.25mm; Lead Free: Lead Free; ComponentLink1URL: https://vcclite.com/wp-content/uploads/wpallimport/files/files/CMD1721Seriesver3.pdf?src-supplier=Digi-Key; ComponentLink1Description: https://vcclite.com/wp-content/uploads/wpallimport/files/files/CMD1721Seriesver3.pdf?src-supplier=Digi-Key; ComponentLink2URL: http://www.mouser.com/ds/2/423/CMD1721ver1-1064576.pdf?src-supplier=Mouser; ComponentLink2Description: http://www.mouser.com/ds/2/423/CMD1721ver1-1064576.pdf?src-supplier=Mouser; ComponentLink3URL: https://www.alliedelec.com/m/d/ea8f758becbd32522d2612194452bcae.pdf?src-supplier=Allied+Electronics; ComponentLink3Description: https://www.alliedelec.com/m/d/ea8f758becbd32522d2612194452bcae.pdf?src-supplier=Allied+Electronics; ComponentLink4URL: http://www.onlinecomponents.com/productFiles/mf-CM/2cmd17-21seriessmtleds0805packagesize.pdf?src-supplier=Onlinecomponents.com; ComponentLink4Description: http://www.onlinecomponents.com/productFiles/mf-CM/2cmd17-21seriessmtleds0805packagesize.pdf?src-supplier=Onlinecomponents.com; Category: Optoelectronics
footprint LED R
pins: 1, 2

## CRCW08051K00FKEA
designator R?, comment 1K
RES SMD 1K OHM 1% 1/8W 0805; Manufacturer: Vishay Dale; Manufacturer Part Number: CRCW08051K00FKEA; Voltage Rating: 150V; Power Rating: 125mW; Resistance: 1kR; Temperature Coefficient: 100ppm/°C; Supplier 1: Digi-Key; Supplier Part Number 1: 541-1.00KCDKR-ND; Stock 1: 669031; Pricing 1: 1=0.1, 10=0.066, 100=0.0267, 1000=0.012, 2500=0.0104 (USD); Case/Package: 0805; Number of Pins: 2; Weight: 0.000194oz; Case Code (Imperial): 0805; Case Code (Metric): 2012; Contact Plating: Tin; Min Operating Temperature: -55°C; Max Operating Temperature: 155°C; Packaging: Tape and Reel; Package Quantity: 5000; Tolerance: 1%; Composition: Thick Film; Termination: SMD/SMT; Military Standard: Not; Voltage Rating (DC): 150V; Length: 2mm; Height: 0.45mm; Width: 1.25mm; Depth: 1.25mm; Radiation Hardening: No; REACH SVHC: Unknown; Lead Free: Lead Free; ComponentLink1URL: http://uk.rs-online.com/webdocs/0d98/0900766b80d98b26.pdf?src-supplier=RSComponents; ComponentLink1Description: http://uk.rs-online.com/webdocs/0d98/0900766b80d98b26.pdf?src-supplier=RSComponents; ComponentLink2URL: http://www.farnell.com/datasheets/2310790.pdf?src-supplier=Element14; ComponentLink2Description: http://www.farnell.com/datasheets/2310790.pdf?src-supplier=Element14; ComponentLink3URL: http://www.vishay.com/docs/20035/dcrcwe3.pdf?src-supplier=Avnet; ComponentLink3Description: http://www.vishay.com/docs/20035/dcrcwe3.pdf?src-supplier=Avnet; ComponentLink4URL: https://www.distrelec.biz/Web/Downloads/a_/en/flD-CRCW-e3_data_en.pdf?mime=application%2Fpdf&src-supplier=Distrelec; ComponentLink4Description: https://www.distrelec.biz/Web/Downloads/a_/en/flD-CRCW-e3_data_en.pdf?mime=application%2Fpdf&src-supplier=Distrelec; ComponentLink5URL: http://www.vishay.com/docs/20035/dcrcwe3.pdf?src-supplier=Future+Electronics; ComponentLink5Description: http://www.vishay.com/docs/20035/dcrcwe3.pdf?src-supplier=Future+Electronics; ComponentLink6URL: http://www.vishay.com/docs/20035/dcrcwe3.pdf?src-supplier=Avnet+Europe; ComponentLink6Description: http://www.vishay.com/docs/20035/dcrcwe3.pdf?src-supplier=Avnet+Europe; Category: Resistors
footprint 0805 Res
pins: 1, 2

## CRCW08054K70JNEAC
designator R?, comment 4k7
RES SMD 4.7K Ohm 5% 1/8W ±200ppm/°C Molded SMD Paper T/R; Manufacturer: Vishay; Manufacturer Part Number: CRCW08054K70JNEAC; Power Rating: 125mW; Resistance: 4.7kR; Supplier 1: Digi-Key; Supplier Part Number 1: 541-4165-1-ND; Stock 1: 137912; Pricing 1: 1=0.1, 10=0.04, 100=0.0164, 1000=0.0074, 2500=0.0064 (USD); Case/Package: 0805; Tolerance: 5%; Lead Free: Lead Free; ComponentLink1URL: http://www.vishay.com/docs/28773/crcwce3.pdf?src-supplier=Digi-Key; ComponentLink1Description: http://www.vishay.com/docs/28773/crcwce3.pdf?src-supplier=Digi-Key; ComponentLink2URL: http://datasheet.octopart.com/CRCW08054K70JNEAC-Vishay-datasheet-100063072.pdf?src-supplier=Future+Electronics; ComponentLink2Description: http://datasheet.octopart.com/CRCW08054K70JNEAC-Vishay-datasheet-100063072.pdf?src-supplier=Future+Electronics; Category: Resistors
footprint 0805 Res
pins: 1, 2

## CRCW080510K0FKTA
designator R?, comment 10K
RES SMD 10K OHM 1% 1/8W 0805; Manufacturer: Vishay Dale; Manufacturer Part Number: CRCW080510K0FKTA; Resistance: 10kR; Power Rating: 125mW; Voltage Rating: 150V; Temperature Coefficient: 100ppm/°C; Supplier 1: Digi-Key; Supplier Part Number 1: 541-3016-1-ND; Stock 1: 27927; Pricing 1: 1=0.15, 10=0.135, 100=0.0521, 1000=0.0229, 2500=0.0198 (USD); Mount: Surface Mount; Case/Package: 0805; Number of Pins: 2; Weight: 0.000194oz; Case Code (Metric): 2012; Case Code (Imperial): 0805; Contact Plating: Tin,Lead; Min Operating Temperature: -55°C; Max Operating Temperature: 155°C; Tolerance: 1%; Packaging: Tape and Reel; Package Quantity: 5000; Composition: Thick Film; Number of Terminations: 2; Military Standard: Not; Max Power Dissipation: 125mW; Voltage Rating (DC): 150V; Power Dissipation: 125mW; Features: Automotive AEC-Q200; Length: 2mm; Height: 0.02inch; Width: 0.049inch; Depth: 1.25mm; Radiation Hardening: No; REACH SVHC: Unknown; Lead Free: Contains Lead; ComponentLink1URL: http://www.vishay.com/docs/20008/dcrcw.pdf?src-supplier=Digi-Key; ComponentLink1Description: http://www.vishay.com/docs/20008/dcrcw.pdf?src-supplier=Digi-Key; ComponentLink2URL: http://components.arrow.com/part/dataview/4072655S1681230N6892?src-supplier=Arrow; ComponentLink2Description: http://components.arrow.com/part/dataview/4072655S1681230N6892?src-supplier=Arrow; ComponentLink3URL: http://www.vishay.com/docs/20008/dcrcw.pdf?src-supplier=Avnet; ComponentLink3Description: http://www.vishay.com/docs/20008/dcrcw.pdf?src-supplier=Avnet; ComponentLink4URL: http://www.vishay.com/docs/20008/dcrcw.pdf?src-supplier=Future+Electronics; ComponentLink4Description: http://www.vishay.com/docs/20008/dcrcw.pdf?src-supplier=Future+Electronics; Category: Resistors
footprint 0805 Res
pins: 1, 2

## CRCW0805100RFKEA
designator R?, comment 100R
RES SMD 100 OHM 1% 1/8W 0805; Manufacturer: Vishay Dale; Manufacturer Part Number: CRCW0805100RFKEA; Power Rating: 125mW; Voltage Rating: 150V; Temperature Coefficient: 100ppm/°C; Supplier 1: Digi-Key; Supplier Part Number 1: 541-100CCT-ND; Stock 1: 282485; Pricing 1: 1=0.1, 10=0.066, 100=0.0267, 1000=0.012, 2500=0.0104 (USD); Mount: Surface Mount; Case/Package: 0805; Number of Pins: 2; Weight: 0.000194oz; Case Code (Metric): 2012; Case Code (Imperial): 0805; Contact Plating: Tin; Min Operating Temperature: -55°C; Max Operating Temperature: 155°C; Package Quantity: 10; Resistance: 100R; Tolerance: 1%; Packaging: Tape and Reel; Composition: Thick Film; Number of Terminations: 2; Termination: SMD/SMT; Military Standard: Not; Max Power Dissipation: 125mW; Features: Automotive AEC-Q200; Voltage Rating (DC): 150V; Length: 2mm; Height: 0.45mm; Width: 0.049inch; Depth: 1.25mm; Radiation Hardening: No; REACH SVHC: Unknown; Lead Free: Lead Free; ComponentLink1URL: http://www.vishay.com/docs/20035/dcrcwe3.pdf?src-supplier=Digi-Key; ComponentLink1Description: http://www.vishay.com/docs/20035/dcrcwe3.pdf?src-supplier=Digi-Key; ComponentLink2URL: http://uk.rs-online.com/webdocs/0d98/0900766b80d98b26.pdf?src-supplier=RSComponents; ComponentLink2Description: http://uk.rs-online.com/webdocs/0d98/0900766b80d98b26.pdf?src-supplier=RSComponents; ComponentLink3URL: https://www.verical.com/server-webapp/html/getDatasheet?partID=90825&src-supplier=Verical; ComponentLink3Description: https://www.verical.com/server-webapp/html/getDatasheet?partID=90825&src-supplier=Verical; ComponentLink4URL: http://www.vishay.com/docs/20035/dcrcwe3.pdf?src-supplier=Avnet+Asia; ComponentLink4Description: http://www.vishay.com/docs/20035/dcrcwe3.pdf?src-supplier=Avnet+Asia; ComponentLink5URL: http://www.vishay.com/docs/20035/dcrcwe3.pdf?src-supplier=Avnet; ComponentLink5Description: http://www.vishay.com/docs/20035/dcrcwe3.pdf?src-supplier=Avnet; ComponentLink6URL: http://www.alliedelec.com/m/d/0c934d6939ccefa68dbe0b96d821c8cf.pdf?src-supplier=Allied+Electronics; ComponentLink6Description: http://www.alliedelec.com/m/d/0c934d6939ccefa68dbe0b96d821c8cf.pdf?src-supplier=Allied+Electronics; ComponentLink7URL: http://www.mouser.com/ds/2/427/dcrcwe3-109170.pdf?src-supplier=Mouser; ComponentLink7Description: http://www.mouser.com/ds/2/427/dcrcwe3-109170.pdf?src-supplier=Mouser; Category: Resistors
footprint 0805 Res
pins: 1, 2

## CRCW0805510RFKEA
designator R?, comment 510R
RES SMD 510 OHM 1% 1/8W 0805; Manufacturer: Vishay; Manufacturer Part Number: CRCW0805510RFKEA; Power Rating: 125mW; Voltage Rating: 150V; Temperature Coefficient: 100ppm/°C; Supplier 1: Digi-Key; Supplier Part Number 1: 541-510CCT-ND; Stock 1: 23412; Pricing 1: 1=0.1, 10=0.066, 100=0.0267, 1000=0.012, 2500=0.0104 (USD); Mount: Surface Mount; Case/Package: 0805; Weight: 0.000194oz; Case Code (Metric): 2012; Case Code (Imperial): 0805; Contact Plating: Tin; Min Operating Temperature: -55°C; Max Operating Temperature: 155°C; Packaging: Tape and Reel; Resistance: 510R; Tolerance: 1%; Package Quantity: 10; Composition: Thick Film; Number of Terminations: 2; Termination: SMD/SMT; Max Power Dissipation: 125mW; Voltage Rating (DC): 150V; Features: Automotive AEC-Q200; Military Standard: Not; Length: 2mm; Height: 0.45mm; Width: 0.049inch; Depth: 1.25mm; Radiation Hardening: No; REACH SVHC: Unknown; Lead Free: Lead Free; ComponentLink1URL: http://www.vishay.com/docs/20035/dcrcwe3.pdf?src-supplier=Digi-Key; ComponentLink1Description: http://www.vishay.com/docs/20035/dcrcwe3.pdf?src-supplier=Digi-Key; ComponentLink2URL: http://www.farnell.com/datasheets/2111203.pdf?src-supplier=Element14; ComponentLink2Description: http://www.farnell.com/datasheets/2111203.pdf?src-supplier=Element14; ComponentLink3URL: https://www.distrelec.biz/Web/Downloads/a_/en/flD-CRCW-e3_data_en.pdf?mime=application%2Fpdf&src-supplier=Distrelec; ComponentLink3Description: https://www.distrelec.biz/Web/Downloads/a_/en/flD-CRCW-e3_data_en.pdf?mime=application%2Fpdf&src-supplier=Distrelec; ComponentLink4URL: http://www.vishay.com/docs/20035/dcrcwe3.pdf?src-supplier=Avnet+Europe; ComponentLink4Description: http://www.vishay.com/docs/20035/dcrcwe3.pdf?src-supplier=Avnet+Europe; ComponentLink5URL: https://www.alliedelec.com/m/d/0c934d6939ccefa68dbe0b96d821c8cf.pdf?src-supplier=Allied+Electronics; ComponentLink5Description: https://www.alliedelec.com/m/d/0c934d6939ccefa68dbe0b96d821c8cf.pdf?src-supplier=Allied+Electronics; ComponentLink6URL: http://www.vishay.com/docs/20035/dcrcwe3.pdf?src-supplier=Future+Electronics; ComponentLink6Description: http://www.vishay.com/docs/20035/dcrcwe3.pdf?src-supplier=Future+Electronics; ComponentLink7URL: http://uk.rs-online.com/webdocs/0d98/0900766b80d98b26.pdf?src-supplier=RSComponents; ComponentLink7Description: http://uk.rs-online.com/webdocs/0d98/0900766b80d98b26.pdf?src-supplier=RSComponents; ComponentLink8URL: http://www.mouser.com/ds/2/427/dcrcwe3-109170.pdf?src-supplier=Mouser; ComponentLink8Description: http://www.mouser.com/ds/2/427/dcrcwe3-109170.pdf?src-supplier=Mouser; ComponentLink9URL: http://www.farnell.com/datasheets/2046716.pdf?src-supplier=Element14; ComponentLink9Description: http://www.farnell.com/datasheets/2046716.pdf?src-supplier=Element14; Category: Resistors
footprint 0805 Res
pins: 1, 2

## CRCW1206100RFKEAC
designator R?, comment 100R
RES SMD 100 OHM 1% 1/4W 1206; Manufacturer: Vishay Semiconductors; Manufacturer Part Number: CRCW1206100RFKEAC; Power Rating: 250mW; Temperature Coefficient: 100ppm/°C; Supplier 1: Digi-Key; Supplier Part Number 1: 541-3982-1-ND; Stock 1: 85911; Pricing 1: 1=0.1, 10=0.077, 100=0.0295, 1000=0.013, 2500=0.0112 (USD); Mount: Surface Mount; Case/Package: 1206; Contact Plating: Tin; Min Operating Temperature: -55°C; Max Operating Temperature: 155°C; Composition: Thick Film; Termination: Wraparound; Tolerance: 1%; Resistance: 100R; Length: 3.2mm; Lead Free: Lead Free; ComponentLink1URL: http://www.vishay.com/docs/20035/dcrcwe3.pdf?src-supplier=Avnet+Asia; ComponentLink1Description: http://www.vishay.com/docs/20035/dcrcwe3.pdf?src-supplier=Avnet+Asia; ComponentLink2URL: http://www.vishay.com/docs/28773/crcwce3.pdf?src-supplier=Digi-Key; ComponentLink2Description: http://www.vishay.com/docs/28773/crcwce3.pdf?src-supplier=Digi-Key; Category: Resistors
footprint 1206 RES
pins: 1, 2

## CRCW1206270RFKEAC
designator R?, comment 270R
RES SMD 270 OHM 1% 1/4W 1206; Manufacturer: Vishay Semiconductors; Manufacturer Part Number: CRCW1206270RFKEAC; Power Rating: 250mW; Temperature Coefficient: 100ppm/°C; Supplier 1: Digi-Key; Supplier Part Number 1: 541-4192-1-ND; Stock 1: 60408; Pricing 1: 1=0.1, 10=0.077, 100=0.0295, 1000=0.013, 2500=0.0112 (USD); Mount: Surface Mount; Case/Package: 1206; Contact Plating: Tin; Min Operating Temperature: -55°C; Max Operating Temperature: 155°C; Composition: Thick Film; Termination: Wraparound; Tolerance: 1%; Resistance: 270R; Length: 3.2mm; Lead Free: Lead Free; ComponentLink1URL: http://www.vishay.com/docs/20035/dcrcwe3.pdf?src-supplier=Avnet+Asia; ComponentLink1Description: http://www.vishay.com/docs/20035/dcrcwe3.pdf?src-supplier=Avnet+Asia; ComponentLink2URL: http://www.vishay.com/docs/28773/crcwce3.pdf?src-supplier=Digi-Key; ComponentLink2Description: http://www.vishay.com/docs/28773/crcwce3.pdf?src-supplier=Digi-Key; Category: Resistors
footprint 1206 RES
pins: 1, 2

## CT-1205CL-SMT-TR
designator BZ?, comment Buzzer
BUZZER AUDIO MAGNETIC IND 4-7V SMD; Manufacturer: CUI; Manufacturer Part Number: CT-1205CL-SMT-TR; Frequency: 2.4kHz; Voltage Rating: 5V; Operating Supply Current: 30mA; Supplier 1: Digi-Key; Supplier Part Number 1: 102-1267-1-ND; Stock 1: 28801; Pricing 1: 1=2.85, 10=2.364, 25=2.1828, 50=2.0508, 100=1.9239 (USD); Mount: Surface Mount; Case/Package: SMD/SMT; Min Operating Temperature: -30°C; Max Operating Temperature: 70°C; Package Quantity: 450; Packaging: Tape and Reel; Termination: Solder; Sensing Method: Magnetic; Length: 12.8mm; Height: 7.6mm; Width: 12.8mm; Lead Free: Lead Free; ComponentLink1URL: http://www.mouser.com/ds/2/670/ct-1205cl-smt-515776.pdf?src-supplier=Mouser; ComponentLink1Description: http://www.mouser.com/ds/2/670/ct-1205cl-smt-515776.pdf?src-supplier=Mouser; ComponentLink2URL: https://www.cui.com/product/resource/digikeypdf/ct-1205cl-smt.pdf?src-supplier=Digi-Key; ComponentLink2Description: https://www.cui.com/product/resource/digikeypdf/ct-1205cl-smt.pdf?src-supplier=Digi-Key; Category: Buzzers
footprint Buzzer
pins: 1 +, 2 -